# EAGLE library part MAX19516 (library ADC)
The MAX19516 dual-channel, analog-to-digital converter (ADC) provides 10-bit resolution and a maximum sample rate of 100Msps. The MAX19516 analog input accepts a wide 0.4V to 1.4V input common-mode voltage range, allowing DCcoupled inputs for a wide range of RF, IF, and baseband front-end components. The MAX19516 provides excellent dynamic performance from baseband to high input frequencies beyond 400MHz, making the device ideal for zero-intermediate frequency (ZIF) and highintermediate frequency (IF) sampling applications. The typical signal-to-noise ratio (SNR) performance is 60dBFS and typical spurious-free dynamic range (SFDR) is 82dBc at fIN = 70MHz and fCLK = 100MHz. The MAX19516 operates from a 1.8V supply. Additionally, an integrated, self-sensing voltage regulator allows operation from a 2.5V to 3.3V supply (AVDD). The digital output drivers operate on an independent supply voltage (OVDD) over the 1.8V to 3.5V range. The analog power consumption is only 57mW per channel at VAVDD = 1.8V. In addition to low operating power, the MAX19516 consumes only 1mW in powerdown mode and 17mW in standby mode. Various adjustments and feature selections are available through programmable registers that are accessed through the 3-wire serial-port interface. Alternatively, the serial-port interface can be disabled, with the three pins available to select output mode, data format, and clock-divider mode. Data outputs are available through a dual parallel CMOS-compatible output data bus that can also be configured as a single multiplexed parallel CMOS bus. The MAX19516 is available in a small 7mm x 7mm 48- pin thin QFN package and is specified over the -40°C to +85°C extended temperature range. Refer to the MAX19505, MAX19506, and MAX19507 data sheets for pin- and feature-compatible 8-bit, 65Msps, 100Msps, and 130Msps versions, respectively. Refer to the MAX19515 and MAX19517 data sheets for pin- and feature-compatible 10-bit, 65Msps and 130Msps versions, respectively.
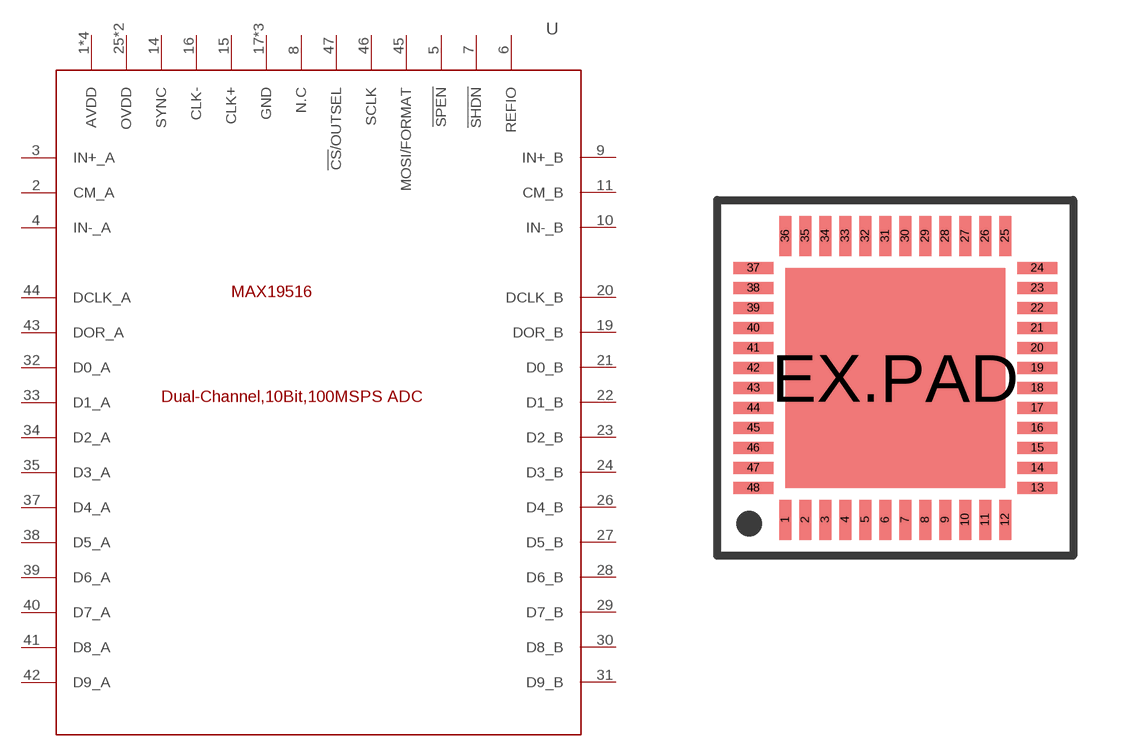
[diagram p0: symbol with the pads of TQFN-48; footprint TQFN-48]

Designator prefix U

## MAX19516ETM+  [TQFN-48]
1  AVDD  pwr
2  CM_A
3  IN+_A
4  IN-_A
5  !SPEN!
6  REFIO  pwr
7  !SHDN!
8  N.C  nc
9  IN+_B
10  IN-_B
11  CM_B
12  AVDD  pwr
13  AVDD  pwr
14  SYNC
15  CLK+
16  CLK-
17  GND  pwr
18  GND  pwr
19  DOR_B
20  DCLK_B
21  D0_B
22  D1_B
23  D2_B
24  D3_B
25  OVDD  pwr
26  D4_B
27  D5_B
28  D6_B
29  D7_B
30  D8_B
31  D9_B
32  D0_A
33  D1_A
34  D2_A
35  D3_A
36  OVDD  pwr
37  D4_A
38  D5_A
39  D6_A
40  D7_A
41  D8_A
42  D9_A
43  DOR_A
44  DCLK_A
45  MOSI/FORMAT
46  SCLK
47  !CS!/OUTSEL
48  AVDD  pwr
EX.PAD  GND  pwr

## Footprint TQFN-48 (pad centres in mm)
smd 0.3 x 1: 1 0,0; 2 0.5,0; 3 1,0; 4 1.5,0; 5 2,0; 6 2.5,0; 7 3,0; 8 3.5,0; 9 4,0; 10 4.5,0; 11 5,0; 12 5.5,0; 25 5.5,7.1; 26 5,7.1; 27 4.5,7.1; 28 4,7.1; 29 3.5,7.1; 30 3,7.1; 31 2.5,7.1; 32 2,7.1; 33 1.5,7.1; 34 1,7.1; 35 0.5,7.1; 36 0,7.1
smd 1 x 0.3: 13 6.3,0.8; 14 6.3,1.3; 15 6.3,1.8; 16 6.3,2.3; 17 6.3,2.8; 18 6.3,3.3; 19 6.3,3.8; 20 6.3,4.3; 21 6.3,4.8; 22 6.3,5.3; 23 6.3,5.8; 24 6.3,6.3; 37 -0.8,6.3; 38 -0.8,5.8; 39 -0.8,5.3; 40 -0.8,4.8; 41 -0.8,4.3; 42 -0.8,3.8; 43 -0.8,3.3; 44 -0.8,2.8; 45 -0.8,2.3; 46 -0.8,1.8; 47 -0.8,1.3; 48 -0.8,0.8
smd 5.5 x 5.5: EX.PAD 2.75,3.55